# Altium schematic symbol library TSR2-24120.SchLib: 1 symbol
Pins are listed as number, name and electrical type; pins without a type are passive.

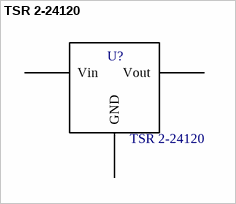
[diagram p0: symbol TSR 2-24120]

## TSR 2-24120
designator U?, comment PartNumber: TSR 2-24120  (hidden comment: 12V 2A Linear Regulator)
Manufacturer: Traco Power; Supplier 1: Digi-Key; Supplier Part Number 1: 1951-2612-ND
footprint TSR 2-24120
pins: 1 Vin, 2 GND, 3 Vout